# EAGLE library part L5973 (library vreg-pulse)
2A SWITCH STEP DOWN SWITCHING REGULATOR
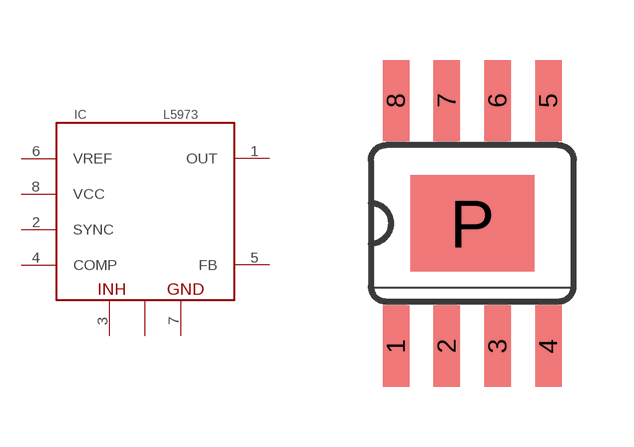
[diagram p5: symbol with the pads of HSOP8-PAD; footprint HSOP8-PAD]

Designator prefix IC

## L5973D  [HSOP8-PAD]
1  OUT  out
2  SYNC  pas
3  INH  in
4  COMP
5  FB  in
6  VREF  out
7  GND  pwr
8  VCC  pwr
P  GND  pwr

## Footprint HSOP8-PAD (pad centres in mm)
smd 0.66 x 2.032: 1 -1.905,-3.073; 2 -0.635,-3.073; 3 0.635,-3.073; 4 1.905,-3.073; 5 1.905,3.073; 6 0.635,3.073; 7 -0.635,3.073; 8 -1.905,3.073
smd 3.1 x 2.41: P 0,0